# Altium schematic symbol library Smart_lockV1.1.SchLib: 49 symbols
Pins are listed as number, name and electrical type; pins without a type are passive.

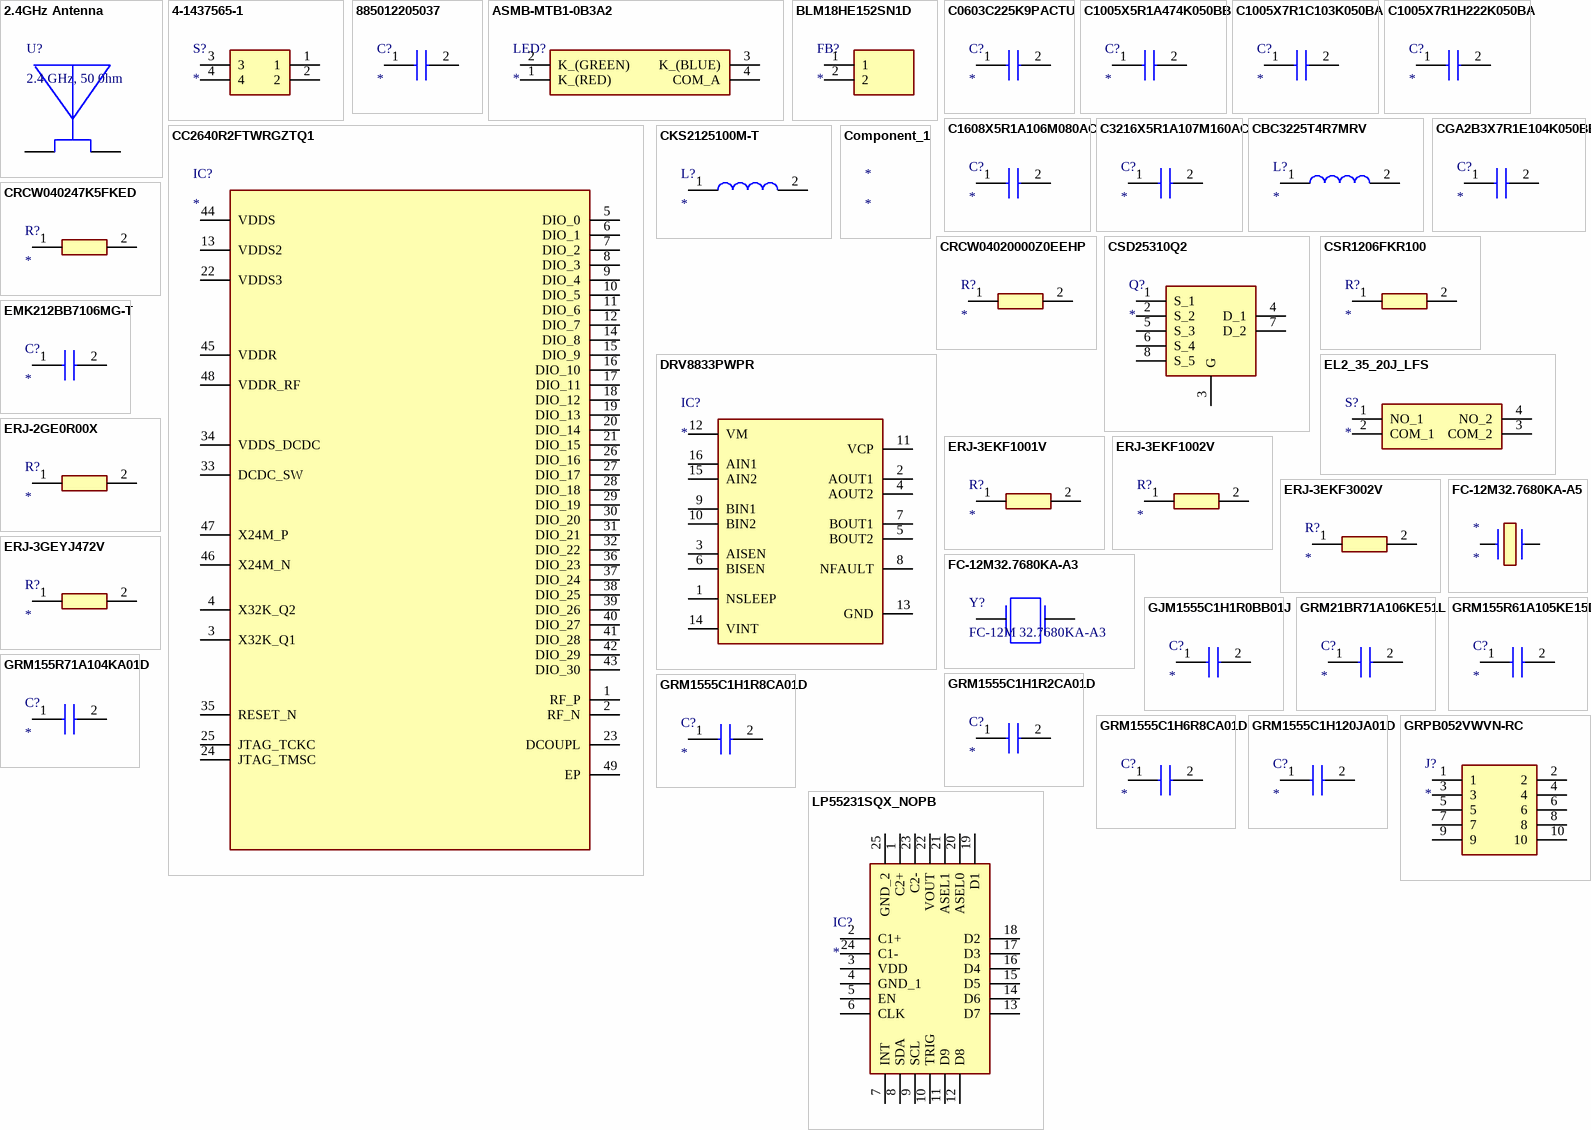
[diagram p0: symbols 2.4GHz Antenna to LP55231SQX_NOPB]

## 2.4GHz Antenna
designator U?, comment 2.4 GHz, 50 0hm
footprint ANT_IFA_USB_2_4GHZ_50R
pins: 1, 2 GND

## 4-1437565-1
designator S?
Switch; Manufacturer_Name: TE Connectivity; Manufacturer_Part_Number: 4-1437565-1; Mouser Part Number: N/A; Mouser Price/Stock: https://www.mouser.com/Search/Refine.aspx?Keyword=N%2FA; Arrow Part Number: 4-1437565-1; Arrow Price/Stock: https://www.arrow.com/en/products/4-1437565-1/te-connectivity?region=europe
footprint FSM-SWITCH
pins: 1, 2, 3, 4

## 885012205037
designator C?
Capacitor; Manufacturer_Name: Wurth Elektronik; Manufacturer_Part_Number: 885012205037; Datasheet Link: https://katalog.we-online.com/pbs/datasheet/885012205037.pdf; Height: 0.55mm; Mouser Part Number: 710-885012205037; Mouser Price/Stock: https://www.mouser.co.uk/ProductDetail/Wurth-Elektronik/885012205037?qs=0KOYDY2FL2%252B%2FS6qIxdvsOA%3D%3D
footprint CAPC1005X55N
pins: 1, 2

## ASMB-MTB1-0B3A2
designator LED?
LED; Manufacturer_Name: Avago Technologies; Manufacturer_Part_Number: ASMB-MTB1-0B3A2; Datasheet Link: https://docs.broadcom.com/doc/AV02-4194EN; Height: 2.1mm; Mouser Part Number: 630-ASMB-MTB1-0B3A2; Mouser Price/Stock: https://www.mouser.co.uk/ProductDetail/Broadcom-Avago/ASMB-MTB1-0B3A2?qs=pUKx8fyJudDzsc2Rt%2Fv8dg%3D%3D
footprint ASMBMTB10B3A2
pins: 1 K_(RED), 2 K_(GREEN), 3 K_(BLUE), 4 COM_A

## BLM18HE152SN1D
designator FB?
Ferrite Bead; Manufacturer_Name: Murata Electronics; Manufacturer_Part_Number: BLM18HE152SN1D; Datasheet Link: http://www.murata.com/~/media/webrenewal/support/library/catalog/products/emc/emifil/c31e.ashx?la=en-gb; Height: 0.95mm; Mouser Part Number: 81-BLM18HE152SN1D; Mouser Price/Stock: https://www.mouser.co.uk/ProductDetail/Murata-Electronics/BLM18HE152SN1D?qs=vNc2DXHODiLhczkT1FKS1Q%3D%3D; Arrow Part Number: BLM18HE152SN1D; Arrow Price/Stock: https://www.arrow.com/en/products/blm18he152sn1d/murata-manufacturing?utm_currency=USD&region=nac
footprint BLM18SP221SN1B
pins: 1, 2

## C0603C225K9PACTU
designator C?
Capacitor; Manufacturer_Name: KEMET; Manufacturer_Part_Number: C0603C225K9PACTU; Datasheet Link: https://content.kemet.com/datasheets/KEM_C1006_X5R_SMD.pdf; Height: 0.87mm; Mouser Part Number: 80-C0603C225K9P; Mouser Price/Stock: https://www.mouser.co.uk/ProductDetail/KEMET/C0603C225K9PACTU?qs=k9TrThuu1pdUHTgQc%252B%2FY%252Bg%3D%3D; Arrow Part Number: C0603C225K9PACTU; Arrow Price/Stock: https://www.arrow.com/en/products/c0603c225k9pactu/kemet-corporation?region=nac
footprint C0603
pins: 1, 2

## C1005X5R1A474K050BB
designator C?
Capacitor; Manufacturer_Name: TDK; Manufacturer_Part_Number: C1005X5R1A474K050BB; Datasheet Link: https://product.tdk.com/info/en/catalog/datasheets/mlcc_commercial_midvoltage_en.pdf; Height: 0.55mm; Mouser Part Number: 810-C1005X5R1A474K; Mouser Price/Stock: https://www.mouser.com/Search/Refine.aspx?Keyword=810-C1005X5R1A474K
footprint CAPC1005X55N
pins: 1, 2

## C1005X7R1C103K050BA
designator C?
Capacitor; Manufacturer_Name: TDK; Manufacturer_Part_Number: C1005X7R1C103K050BA; Datasheet Link: https://product.tdk.com/info/en/catalog/datasheets/mlcc_commercial_midvoltage_en.pdf; Height: 0.55mm; Mouser Part Number: 810-C1005X7R1C103K; Mouser Price/Stock: https://www.mouser.co.uk/ProductDetail/TDK/C1005X7R1C103K050BA?qs=NRhsANhppD%252Bt7xPr32kpQA%3D%3D; Arrow Part Number: C1005X7R1C103K050BA; Arrow Price/Stock: https://www.arrow.com/en/products/c1005x7r1c103k050ba/tdk?region=nac
footprint CAPC1005X55N
pins: 1, 2

## C1005X7R1H222K050BA
designator C?
Capacitor; Manufacturer_Name: TDK; Manufacturer_Part_Number: C1005X7R1H222K050BA; Datasheet Link: https://product.tdk.com/info/en/catalog/datasheets/mlcc_commercial_midvoltage_en.pdf; Height: 0.55mm; Mouser Part Number: 810-C1005X7R1H222K; Mouser Price/Stock: https://www.mouser.co.uk/ProductDetail/TDK/C1005X7R1H222K050BA?qs=NRhsANhppD9DKOaxmnLFog%3D%3D
footprint CAPC1005X55N
pins: 1, 2

## C1608X5R1A106M080AC
designator C?
Capacitor; Manufacturer_Name: TDK; Manufacturer_Part_Number: C1608X5R1A106M080AC; Datasheet Link: https://product.tdk.com/info/en/catalog/datasheets/mlcc_commercial_midvoltage_en.pdf; Height: 0.8mm; Mouser Part Number: 810-C1608X5R1A106M; Mouser Price/Stock: https://www.mouser.co.uk/ProductDetail/TDK/C1608X5R1A106M080AC?qs=NRhsANhppD%2FNXUUBltaPzw%3D%3D; Arrow Part Number: C1608X5R1A106M080AC; Arrow Price/Stock: https://www.arrow.com/en/products/c1608x5r1a106m080ac/tdk?region=nac
footprint CAPC1608X80N
pins: 1, 2

## C3216X5R1A107M160AC
designator C?
Capacitor; Manufacturer_Name: TDK; Manufacturer_Part_Number: C3216X5R1A107M160AC; Datasheet Link: https://product.tdk.com/info/en/catalog/datasheets/mlcc_commercial_midvoltage_en.pdf; Height: 1.8mm; Mouser Part Number: 810-C3216X5R1A107M; Mouser Price/Stock: https://www.mouser.co.uk/ProductDetail/TDK/C3216X5R1A107M160AC?qs=NRhsANhppD%252B0MpDu1pf9NA%3D%3D; Arrow Part Number: C3216X5R1A107M160AC; Arrow Price/Stock: https://www.arrow.com/en/products/c3216x5r1a107m160ac/tdk?region=nac
footprint CAPC3216X180N
pins: 1, 2

## CBC3225T4R7MRV
designator L?
Inductor; Manufacturer_Name: TAIYO YUDEN; Manufacturer_Part_Number: CBC3225T4R7MRV; Datasheet Link: https://www.arrow.com/en/products/cbc3225t4r7mrv/taiyo-yuden; Height: 2.7mm; Mouser Part Number: 963-CBC3225T4R7MRV; Mouser Price/Stock: https://www.mouser.co.uk/ProductDetail/TAIYO-YUDEN/CBC3225T4R7MRV?qs=DpxmIIQLg%252BP760DvOSan2w%3D%3D; Arrow Part Number: CBC3225T4R7MRV; Arrow Price/Stock: https://www.arrow.com/en/products/cbc3225t4r7mrv/taiyo-yuden
footprint INDC3225X270N
pins: 1, 2

## CC2640R2FTWRGZTQ1
designator IC?
Integrated Circuit; Manufacturer_Name: Texas Instruments; Manufacturer_Part_Number: CC2640R2FTWRGZTQ1; Datasheet Link: https://mouser.componentsearchengine.com/Datasheets/2/CC2640R2FTWRGZTQ1.pdf; Height: 1mm; Mouser Part Number: 595-2640R2FTWRGZTQ1; Mouser Price/Stock: https://www.mouser.co.uk/ProductDetail/Texas-Instruments/CC2640R2FTWRGZTQ1?qs=6BVwEky2YVwde1NefGxXhA%3D%3D; Arrow Part Number: CC2640R2FTWRGZTQ1; Arrow Price/Stock: https://www.arrow.com/en/products/cc2640r2ftwrgztq1/texas-instruments?region=nac
footprint QFN50P700X700X100-49N-D
pins: 1 RF_P, 2 RF_N, 3 X32K_Q1, 4 X32K_Q2, 5 DIO_0, 6 DIO_1, 7 DIO_2, 8 DIO_3, 9 DIO_4, 10 DIO_5, 11 DIO_6, 12 DIO_7, 13 VDDS2, 14 DIO_8, 15 DIO_9, 16 DIO_10, 17 DIO_11, 18 DIO_12, 19 DIO_13, 20 DIO_14, 21 DIO_15, 22 VDDS3, 23 DCOUPL, 24 JTAG_TMSC, 25 JTAG_TCKC, 26 DIO_16, 27 DIO_17, 28 DIO_18, 29 DIO_19, 30 DIO_20, 31 DIO_21, 32 DIO_22, 33 DCDC_SW, 34 VDDS_DCDC, 35 RESET_N, 36 DIO_23, 37 DIO_24, 38 DIO_25, 39 DIO_26, 40 DIO_27, 41 DIO_28, 42 DIO_29, 43 DIO_30, 44 VDDS, 45 VDDR, 46 X24M_N, 47 X24M_P, 48 VDDR_RF, 49 EP

## CGA2B3X7R1E104K050BB
designator C?
Capacitor; Manufacturer_Name: TDK; Manufacturer_Part_Number: CGA2B3X7R1E104K050BB; Datasheet Link: http://docs-europe.electrocomponents.com/webdocs/14e9/0900766b814e9125.pdf; Height: 0.55mm; Mouser Part Number: 810-CGA2B3X7R1E104K; Mouser Price/Stock: https://www.mouser.co.uk/ProductDetail/TDK/CGA2B3X7R1E104K050BB?qs=NRhsANhppD8vfw6RTbl%2FmA%3D%3D; Arrow Part Number: CGA2B3X7R1E104K050BB; Arrow Price/Stock: https://www.arrow.com/en/products/cga2b3x7r1e104k050bb/tdk
footprint CAPC1005X55N
pins: 1, 2

## CKS2125100M-T
designator L?
Inductor; Manufacturer_Name: TAIYO YUDEN; Manufacturer_Part_Number: CKS2125100M-T; Datasheet Link: http://www.farnell.com/datasheets/1913121.pdf; Height: 1.45mm; Mouser Part Number: 963-CKS2125100M-T; Mouser Price/Stock: https://www.mouser.co.uk/ProductDetail/TAIYO-YUDEN/CKS2125100M-T?qs=I6KAKw0tg2zHq294SAdJZA%3D%3D
footprint INDC2112X145N
pins: 1, 2

## Component_1
designator *

## CRCW040247K5FKED
designator R?
Resistor; Manufacturer_Name: Vishay; Manufacturer_Part_Number: CRCW040247K5FKED; Datasheet Link: http://www.vishay.com/docs/20035/dcrcwe3.pdf; Height: 0.4mm; Mouser Part Number: 71-CRCW0402-47.5K-E3; Mouser Price/Stock: https://www.mouser.co.uk/ProductDetail/Vishay-Dale/CRCW040247K5FKED?qs=rzhQWu8UUS33UUFZR3Sagw%3D%3D; Arrow Part Number: CRCW040247K5FKED; Arrow Price/Stock: https://www.arrow.com/en/products/crcw040247k5fked/vishay
footprint RESC1005X40N
pins: 1, 2

## CRCW04020000Z0EEHP
designator R?
Resistor; Manufacturer_Name: Vishay; Manufacturer_Part_Number: CRCW04020000Z0EEHP; Datasheet Link: http://www.vishay.com/docs/20035/dcrcwe3.pdf; Height: 0.4mm; Mouser Part Number: 71-CRCW04020000Z0EEH; Mouser Price/Stock: https://www.mouser.co.uk/ProductDetail/Vishay/CRCW04020000Z0EEHP?qs=Imq1NPwxi74NTc567q7flQ%3D%3D; Arrow Part Number: CRCW04020000Z0EEHP; Arrow Price/Stock: https://www.arrow.com/en/products/crcw04020000z0eehp/vishay?utm_currency=USD&region=nac
footprint RESC1005X40N
pins: 1, 2

## CSD25310Q2
designator Q?
MOSFET (P-Channel); Manufacturer_Name: Texas Instruments; Manufacturer_Part_Number: CSD25310Q2; Datasheet Link: http://www.ti.com/lit/gpn/csd25310q2; Mouser Part Number: 595-CSD25310Q2; Mouser Price/Stock: https://www.mouser.co.uk/ProductDetail/Texas-Instruments/CSD25310Q2?qs=%252BFzhjShcsaLmTjZr5cnj9w%3D%3D; Arrow Part Number: CSD25310Q2; Arrow Price/Stock: https://www.arrow.com/en/products/csd25310q2/texas-instruments?region=nac
footprint CSD17313Q2
pins: 1 S_1, 2 S_2, 3 G, 4 D_1, 5 S_3, 6 S_4, 7 D_2, 8 S_5

## CSR1206FKR100
designator R?
Resistor; Manufacturer_Name: Stackpole Electronics; Manufacturer_Part_Number: CSR1206FKR100; Datasheet Link: https://cs.seielect.com/catalog/SEI-CSR_CSRN.pdf; Height: 0.65mm; Mouser Part Number: 708-CSR1206FKR100; Mouser Price/Stock: https://www.mouser.co.uk/ProductDetail/SEI-Stackpole/CSR1206FKR100?qs=FESYatJ8odJJ%2Fwfc%252BjDDcQ%3D%3D
footprint CSR1206
pins: 1, 2

## DRV8833PWPR
designator IC?
Integrated Circuit; Manufacturer_Name: Texas Instruments; Manufacturer_Part_Number: DRV8833PWPR; Datasheet Link: http://www.ti.com/lit/gpn/drv8833; Height: 1.2mm; Mouser Part Number: 595-DRV8833PWPR; Mouser Price/Stock: https://www.mouser.co.uk/ProductDetail/Texas-Instruments/DRV8833PWPR?qs=luhu8ESwuKxT62RV9jrJTg%3D%3D; Arrow Part Number: DRV8833PWPR; Arrow Price/Stock: https://www.arrow.com/en/products/drv8833pwpr/texas-instruments?utm_currency=USD&region=europe
footprint SOP65P640X120-16N
pins: 1 NSLEEP, 2 AOUT1, 3 AISEN, 4 AOUT2, 5 BOUT2, 6 BISEN, 7 BOUT1, 8 NFAULT, 9 BIN1, 10 BIN2, 11 VCP, 12 VM, 13 GND, 14 VINT, 15 AIN2, 16 AIN1

## EL2_35_20J_LFS
designator S?
Switch; Manufacturer_Name: LITTELFUSE; Manufacturer_Part_Number: EL2 35 20J LFS; Datasheet Link: https://www.ckswitches.com/media/3758/el2.pdf; Height: 3.7mm
footprint EL23520JLFS
pins: 1 NO_1, 2 COM_1, 3 COM_2, 4 NO_2

## EMK212BB7106MG-T
designator C?
Capacitor; Manufacturer_Name: TAIYO YUDEN; Manufacturer_Part_Number: EMK212BB7106MG-T; Datasheet Link: https://datasheet.datasheetarchive.com/originals/distributors/Datasheets-DGA20/25674.pdf; Height: 1.45mm; Mouser Part Number: 963-EMK212BB7106MG-T; Mouser Price/Stock: https://www.mouser.co.uk/ProductDetail/TAIYO-YUDEN/EMK212BB7106MG-T?qs=CNQs48zzdnoVUZzBq71rnA%3D%3D
footprint CAPC2114X145N
pins: 1, 2

## ERJ-2GE0R00X
designator R?
Resistor; Manufacturer_Name: Panasonic; Manufacturer_Part_Number: ERJ-2GE0R00X; Datasheet Link: http://industrial.panasonic.com/www-cgi/jvcr13pz.cgi?E+PZ+3+AOA0001+ERJ2GE0R00X+7+WW; Height: 0.4mm; Mouser Part Number: 667-ERJ-2GE0R00X; Mouser Price/Stock: https://www.mouser.co.uk/ProductDetail/Panasonic/ERJ-2GE0R00X?qs=Cz%252B5TvT4yly5%252BP7oLZcLxw%3D%3D; Arrow Part Number: ERJ-2GE0R00X; Arrow Price/Stock: https://www.arrow.com/en/products/erj2ge0r00x/panasonic?region=nac
footprint RESC1005X40N
pins: 1, 2

## ERJ-3EKF1001V
designator R?
Resistor; Manufacturer_Name: Panasonic; Manufacturer_Part_Number: ERJ-3EKF1001V; Datasheet Link: http://industrial.panasonic.com/cdbs/www-data/pdf/RDA0000/AOA0000C86.pdf; Height: 0.55mm; Mouser Part Number: 667-ERJ-3EKF1001V; Mouser Price/Stock: https://www.mouser.co.uk/ProductDetail/Panasonic/ERJ-3EKF1001V?qs=H7k1u0Mp9JTM8yQxOuvoDg%3D%3D; Arrow Part Number: ERJ-3EKF1001V; Arrow Price/Stock: https://www.arrow.com/en/products/erj-3ekf1001v/panasonic?region=nac
footprint RESC1608X55N
pins: 1, 2

## ERJ-3EKF1002V
designator R?
Resistor; Manufacturer_Name: Panasonic; Manufacturer_Part_Number: ERJ-3EKF1002V; Datasheet Link: http://industrial.panasonic.com/cdbs/www-data/pdf/RDA0000/AOA0000C86.pdf; Height: 0.55mm; Mouser Part Number: 667-ERJ-3EKF1002V; Mouser Price/Stock: https://www.mouser.co.uk/ProductDetail/Panasonic/ERJ-3EKF1002V?qs=H7k1u0Mp9JSrGPQ5%2F5COuw%3D%3D; Arrow Part Number: ERJ-3EKF1002V; Arrow Price/Stock: https://www.arrow.com/en/products/erj-3ekf1002v/panasonic?region=europe
footprint RESC1608X55N
pins: 1, 2

## ERJ-3EKF3002V
designator R?
Resistor; Manufacturer_Name: Panasonic; Manufacturer_Part_Number: ERJ-3EKF3002V; Datasheet Link: http://industrial.panasonic.com/cdbs/www-data/pdf/RDA0000/AOA0000C86.pdf; Height: 0.55mm; Mouser Part Number: 667-ERJ-3EKF3002V; Mouser Price/Stock: https://www.mouser.co.uk/ProductDetail/Panasonic/ERJ-3EKF3002V?qs=MVjVSMjNRMoByeEjjMcfzA%3D%3D; Arrow Part Number: ERJ-3EKF3002V; Arrow Price/Stock: https://www.arrow.com/en/products/erj3ekf3002v/panasonic?region=nac
footprint RESC1608X55N
pins: 1, 2

## ERJ-3GEYJ472V
designator R?
Resistor; Manufacturer_Name: Panasonic; Manufacturer_Part_Number: ERJ-3GEYJ472V; Datasheet Link: http://docs-europe.electrocomponents.com/webdocs/13ba/0900766b813ba21b.pdf; Height: 0.55mm; Mouser Part Number: 667-ERJ-3GEYJ472V; Mouser Price/Stock: https://www.mouser.co.uk/ProductDetail/Panasonic/ERJ-3GEYJ472V?qs=5Z1f76oN9PODrqkF4KFDng%3D%3D; Arrow Part Number: ERJ-3GEYJ472V; Arrow Price/Stock: https://www.arrow.com/en/products/erj-3geyj472v/panasonic?region=europe
footprint ERJ3EKF1000V
pins: 1, 2

## FC-12M32.7680KA-A3
designator Y?, comment FC-12M 32.7680KA-A3
Parallel - Fundamental Quartz Crystal, 0.032768MHz Nom; Manufacturer: Epson; Supplier: Mouser; Supplier Part Number: 732-FC-12M-32.76KAA3; Manufacturer Part Number: FC-12M32.7680KA-A3; RoHS: Yes; Category: Crystals; Stock: 66802; Pricing: 1=0.82, 10=0.796, 50=0.796, 100=0.701, 1000=0.7, 10000=0.691 (USD); Terminal Finish: Gold; Min Operating Temperature: -40°C; Max Operating Temperature: 85°C; JESD-609 Code: e4; Crystal/Resonator Type: PARALLEL - FUNDAMENTAL; Operating Frequency-Nom: 0.032768; Reach SVHC Compliant: Yes; RoHS Compliant: Yes; ComponentLink1URL: https://datasheet.ciiva.com:443/pdfs/VipMasterIC/IC/SEIK/SEIK-S-A0003554755/SEIK-S-A0003554755-1.pdf?src-supplier=IHS+Markit; ComponentLink1Description: https://datasheet.ciiva.com:443/pdfs/VipMasterIC/IC/SEIK/SEIK-S-A0003554755/SEIK-S-A0003554755-1.pdf?src-supplier=IHS+Markit; ComponentLink2URL: http://www.mouser.com/ds/2/137/C-12M_en-932929.pdf?src-supplier=Mouser; ComponentLink2Description: http://www.mouser.com/ds/2/137/C-12M_en-932929.pdf?src-supplier=Mouser; ComponentLink3URL: https://www5.epsondevice.com/en/information/support/pdf/june_2018_psc_masterbook.pdf?src-supplier=Digikey; ComponentLink3Description: https://www5.epsondevice.com/en/information/support/pdf/june_2018_psc_masterbook.pdf?src-supplier=Digikey; ComponentLink4URL: https://support.epson.biz/td/api/doc_check.php?dl=brief_FC-12D&lang=en&src-supplier=Digikey; ComponentLink4Description: https://support.epson.biz/td/api/doc_check.php?dl=brief_FC-12D&lang=en&src-supplier=Digikey; ComponentLink5URL: http://datasheet.octopart.com/FC-12M-32.7680KA-A3-Epson-datasheet-62043849.pdf?src-supplier=Verical; ComponentLink5Description: http://datasheet.octopart.com/FC-12M-32.7680KA-A3-Epson-datasheet-62043849.pdf?src-supplier=Verical; ComponentLink6URL: http://datasheet.octopart.com/FC-12M-32.7680KA-A3-Epson-datasheet-62043849.pdf?src-supplier=Future+Electronics; ComponentLink6Description: http://datasheet.octopart.com/FC-12M-32.7680KA-A3-Epson-datasheet-62043849.pdf?src-supplier=Future+Electronics; ComponentLink7URL: http://datasheet.octopart.com/FC-12M-32.7680KA-A3-Epson-datasheet-62043849.pdf?src-supplier=NAC+Semi; ComponentLink7Description: http://datasheet.octopart.com/FC-12M-32.7680KA-A3-Epson-datasheet-62043849.pdf?src-supplier=NAC+Semi
footprint FC-12M 32.7680KA-A3
pins: 1, 2

## FC-12M32.7680KA-A5
designator *
Parallel - Fundamental Quartz Crystal, 0.032768MHz Nom; Manufacturer: Epson; Manufacturer Part Number: FC-12M32.7680KA-A5; Supplier: Mouser; Supplier Part Number: 732-FC-12M32.768KAA5; RoHS: Yes; Category: Crystals; Stock: 52995; Pricing: 1=0.65, 10=0.506, 50=0.506, 100=0.455, 1000=0.39, 10000=0.366 (USD); Terminal Finish: Gold; Min Operating Temperature: -40°C; Max Operating Temperature: 85°C; JESD-609 Code: e4; Crystal/Resonator Type: PARALLEL - FUNDAMENTAL; Operating Frequency-Nom: 0.032768; Reach SVHC Compliant: Yes; RoHS Compliant: Yes; ComponentLink1URL: https://datasheet.ciiva.com:443/pdfs/VipMasterIC/IC/SEIK/SEIK-S-A0008395574/SEIK-S-A0008395574-1.pdf?src-supplier=IHS+Markit; ComponentLink1Description: https://datasheet.ciiva.com:443/pdfs/VipMasterIC/IC/SEIK/SEIK-S-A0008395574/SEIK-S-A0008395574-1.pdf?src-supplier=IHS+Markit; ComponentLink2URL: https://datasheet.ciiva.com/12388/1407447-3083-12388132.pdf?src-supplier=Mouser; ComponentLink2Description: https://datasheet.ciiva.com/12388/1407447-3083-12388132.pdf?src-supplier=Mouser
footprint FC12M327680KAA5
pins: 1, 2

## GJM1555C1H1R0BB01J
designator C?
Capacitor; Manufacturer_Name: Murata Electronics; Manufacturer_Part_Number: GJM1555C1H1R0BB01J; Datasheet Link: https://psearch.en.murata.com/capacitor/product/GJM1555C1H1R0BB01%23.html; Height: 0.55mm; Mouser Part Number: 81-GJM1555C1H1R0BB1J; Mouser Price/Stock: https://www.mouser.co.uk/ProductDetail/Murata-Electronics/GJM1555C1H1R0BB01J?qs=QDXoN8f0aYKhYDjDsFjbQw%3D%3D; Arrow Part Number: GJM1555C1H1R0BB01J; Arrow Price/Stock: https://www.arrow.com/en/products/gjm1555c1h1r0bb01j/murata-manufacturing
footprint CAPC1005X55N
pins: 1, 2

## GRM21BR71A106KE51L
designator C?
Capacitor; Manufacturer_Name: Murata Electronics; Manufacturer_Part_Number: GRM21BR71A106KE51L; Datasheet Link: http://www.murata.com/~/media/webrenewal/support/library/catalog/products/capacitor/mlcc/c02e.pdf; Height: 1.45mm; Mouser Part Number: 81-GRM21BR71A106KE51; Mouser Price/Stock: https://www.mouser.co.uk/ProductDetail/Murata-Electronics/GRM21BR71A106KE51L?qs=kHCDrmfBqSAdNFLacabF8w%3D%3D; Arrow Part Number: GRM21BR71A106KE51L; Arrow Price/Stock: https://www.arrow.com/en/products/grm21br71a106ke51l/murata-manufacturing
footprint CAPC2012X145N
pins: 1, 2

## GRM155R61A105KE15D
designator C?
Capacitor; Manufacturer_Name: Murata Electronics; Manufacturer_Part_Number: GRM155R61A105KE15D; Datasheet Link: http://www.murata.com/~/media/webrenewal/support/library/catalog/products/capacitor/mlcc/c02e.pdf; Height: 0.55mm; Mouser Part Number: 81-GRM155R61A105KE15; Mouser Price/Stock: https://www.mouser.co.uk/ProductDetail/Murata-Electronics/GRM155R61A105KE15D?qs=mjAxHPhY7UcmPekRqw%2FAPA%3D%3D; Arrow Part Number: GRM155R61A105KE15D; Arrow Price/Stock: https://www.arrow.com/en/products/grm155r61a105ke15d/murata-manufacturing?region=europe
footprint CAPC1005X55N
pins: 1, 2

## GRM155R71A104KA01D
designator C?
Capacitor; Manufacturer_Name: Murata Electronics; Manufacturer_Part_Number: GRM155R71A104KA01D; Datasheet Link: http://www.murata.com/~/media/webrenewal/support/library/catalog/products/capacitor/mlcc/c02e.pdf; Height: 0.55mm; Mouser Part Number: 81-GRM155R71A104KA1D; Mouser Price/Stock: https://www.mouser.co.uk/ProductDetail/Murata-Electronics/GRM155R71A104KA01D?qs=8YPuuxuUzMIpJ%252BESZ%2Fj8CQ%3D%3D; Arrow Part Number: GRM155R71A104KA01D; Arrow Price/Stock: https://www.arrow.com/en/products/grm155r71a104ka01d/murata-manufacturing?region=nac
footprint CAPC1005X55N
pins: 1, 2

## GRM1555C1H1R2CA01D
designator C?
Capacitor; Manufacturer_Name: Murata Electronics; Manufacturer_Part_Number: GRM1555C1H1R2CA01D; Datasheet Link: http://www.murata.com/~/media/webrenewal/support/library/catalog/products/capacitor/mlcc/c02e.pdf; Height: 0.55mm; Mouser Part Number: 81-GRM1555C1H1R2CA1D; Mouser Price/Stock: https://www.mouser.com/Search/ProductDetail.aspx?qs=to8XolpOzrP6nx%252b3wqoCBw%3d%3d
footprint CAPC1005X55N
pins: 1, 2

## GRM1555C1H1R8CA01D
designator C?
Capacitor; Manufacturer_Name: Murata Electronics; Manufacturer_Part_Number: GRM1555C1H1R8CA01D; Datasheet Link: http://www.murata.com/~/media/webrenewal/support/library/catalog/products/capacitor/mlcc/c02e.pdf; Height: 0.55mm; Mouser Part Number: 81-GRM1555C1H1R8CA1D; Mouser Price/Stock: https://www.mouser.co.uk/ProductDetail/Murata-Electronics/GRM1555C1H1R8CA01D?qs=4k9rjS6ZRl5xsfkvNAudjg%3D%3D; Arrow Part Number: GRM1555C1H1R8CA01D; Arrow Price/Stock: https://www.arrow.com/en/products/grm1555c1h1r8ca01d/murata-manufacturing?region=nac
footprint CAPC1005X55N
pins: 1, 2

## GRM1555C1H6R8CA01D
designator C?
Capacitor; Manufacturer_Name: Murata Electronics; Manufacturer_Part_Number: GRM1555C1H6R8CA01D; Datasheet Link: http://www.murata.com/~/media/webrenewal/support/library/catalog/products/capacitor/mlcc/c02e.pdf; Height: 0.55mm; Mouser Part Number: 81-GRM1555C1H6R8CA1D; Mouser Price/Stock: https://www.mouser.co.uk/ProductDetail/Murata-Electronics/GRM1555C1H6R8CA01D?qs=q312vENifzChk4Wux6WqXA%3D%3D; Arrow Part Number: GRM1555C1H6R8CA01D; Arrow Price/Stock: https://www.arrow.com/en/products/grm1555c1h6r8ca01d/murata-manufacturing
footprint CAPC1005X55N
pins: 1, 2

## GRM1555C1H120JA01D
designator C?
Capacitor; Manufacturer_Name: Murata Electronics; Manufacturer_Part_Number: GRM1555C1H120JA01D; Datasheet Link: http://www.murata.com/~/media/webrenewal/support/library/catalog/products/capacitor/mlcc/c02e.pdf; Height: 0.55mm; Mouser Part Number: 81-GRM1555C1H120JA1D; Mouser Price/Stock: https://www.mouser.co.uk/ProductDetail/Murata-Electronics/GRM1555C1H120JA01D?qs=to8XolpOzrOCHudLswyzbw%3D%3D; Arrow Part Number: GRM1555C1H120JA01D; Arrow Price/Stock: https://www.arrow.com/en/products/grm1555c1h120ja01d/murata-manufacturing?region=nac
footprint CAPC1005X55N
pins: 1, 2

## GRPB052VWVN-RC
designator J?
Connector; Manufacturer_Name: Sullins; Manufacturer_Part_Number: GRPB052VWVN-RC; Datasheet Link: https://media.digikey.com/pdf/Data%20Sheets/Sullins%20PDFs/GRPB_%20_2VWVN-RC%2010954-C.pdf; Height: 4.3mm
footprint HDRV10W50P127_2X5_635X340X430P
pins: 1, 2, 3, 4, 5, 6, 7, 8, 9, 10

## LP55231SQX_NOPB
designator IC?
Integrated Circuit; Manufacturer_Name: Texas Instruments; Manufacturer_Part_Number: LP55231SQX/NOPB; Datasheet Link: http://www.ti.com/lit/gpn/lp55231; Height: 0.8mm; Mouser Part Number: 595-LP55231SQX/NOPB; Mouser Price/Stock: https://www.mouser.co.uk/ProductDetail/Texas-Instruments/LP55231SQX-NOPB?qs=HF2YfZwisE8IcIRPR19gTw%3D%3D; Arrow Part Number: LP55231SQX/NOPB; Arrow Price/Stock: https://www.arrow.com/en/products/lp55231sqxnopb/texas-instruments?region=nac
footprint QFN50P400X400X80-25N
pins: 1 C2+, 2 C1+, 3 VDD, 4 GND_1, 5 EN, 6 CLK, 7 INT, 8 SDA, 9 SCL, 10 TRIG, 11 D9, 12 D8, 13 D7, 14 D6, 15 D5, 16 D4, 17 D3, 18 D2, 19 D1, 20 ASEL0, 21 ASEL1, 22 VOUT, 23 C2-, 24 C1-, 25 GND_2

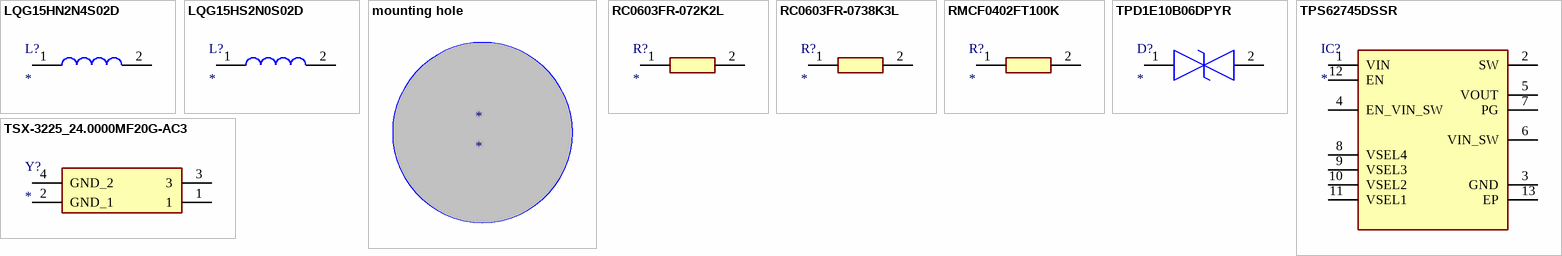
[diagram p1: symbols LQG15HN2N4S02D to TSX-3225_24.0000MF20G-AC3]

## LQG15HN2N4S02D
designator L?
Inductor; Manufacturer_Name: Murata Electronics; Manufacturer_Part_Number: LQG15HN2N4S02D; Datasheet Link: https://psearch.en.murata.com/inductor/product/LQG15HN2N4S02%23.html; Height: 0.55mm; Mouser Part Number: 81-LQG15HN2N4S02D; Mouser Price/Stock: https://www.mouser.com/Search/Refine.aspx?Keyword=81-LQG15HN2N4S02D; Arrow Part Number: LQG15HN2N4S02D; Arrow Price/Stock: https://www.arrow.com/en/products/lqg15hn2n4s02d/murata-manufacturing
footprint LQG15WH0N7B02D
pins: 1, 2

## LQG15HS2N0S02D
designator L?
Inductor; Manufacturer_Name: Murata Electronics; Manufacturer_Part_Number: LQG15HS2N0S02D; Datasheet Link: https://psearch.en.murata.com/inductor/product/LQG15HS2N0S02%23.html; Height: 0.55mm; Mouser Part Number: 81-LQG15HS2N0S02D; Mouser Price/Stock: https://www.mouser.co.uk/ProductDetail/Murata-Electronics/LQG15HS2N0S02D?qs=z7wylDbq%2FU6uWxpTRPm4gA%3D%3D; Arrow Part Number: LQG15HS2N0S02D; Arrow Price/Stock: https://www.arrow.com/en/products/lqg15hs2n0s02d/murata-manufacturing?region=nac
footprint LQG15WH0N7B02D
pins: 1, 2

## mounting hole
designator *
footprint mounting hole

## RC0603FR-072K2L
designator R?
Resistor; Manufacturer_Name: KEMET; Manufacturer_Part_Number: RC0603FR-072K2L; Datasheet Link: http://www.yageo.com/documents/recent/PYu-RC0603_51_RoHS_L_v5.pdf; Height: 0.55mm; Mouser Part Number: 603-RC0603FR-072K2L; Mouser Price/Stock: https://www.mouser.co.uk/ProductDetail/YAGEO/RC0603FR-072K2L?qs=diQw95jMAeOQmNpe2MM%252BPw%3D%3D; Arrow Part Number: RC0603FR-072K2L; Arrow Price/Stock: https://www.arrow.com/en/products/rc0603fr-072k2l/yageo?region=nac
footprint RESC1608X55N
pins: 1, 2

## RC0603FR-0738K3L
designator R?
Resistor; Manufacturer_Name: KEMET; Manufacturer_Part_Number: RC0603FR-0738K3L; Datasheet Link: http://www.yageo.com/documents/recent/PYu-RC0603_51_RoHS_L_v5.pdf; Height: 0.55mm
footprint RESC1608X55N
pins: 1, 2

## RMCF0402FT100K
designator R?
Resistor; Manufacturer_Name: Stackpole Electronics; Manufacturer_Part_Number: RMCF0402FT100K; Datasheet Link: https://cs.seielect.com/catalog/SEI-RMCF_RMCP.pdf; Height: 0.35mm; Mouser Part Number: 708-RMCF0402FT100K; Mouser Price/Stock: https://www.mouser.co.uk/ProductDetail/SEI-Stackpole/RMCF0402FT100K?qs=FESYatJ8odIlocPFcyIG5Q%3D%3D; Arrow Part Number: RMCF0402FT100K; Arrow Price/Stock: https://www.arrow.com/en/products/rmcf0402ft100k/stackpole-electronics?region=asia
footprint RESC1005X35N
pins: 1, 2

## TPD1E10B06DPYR
designator D?
TVS Diode (Bi-directional); Manufacturer_Name: Texas Instruments; Manufacturer_Part_Number: TPD1E10B06DPYR; Datasheet Link: https://www.ti.com/lit/ds/symlink/tpd1e10b06.pdf?HQS=TI-null-null-mousermode-df-pf-null-wwe&ts=1599077798252&ref_url=https%253A%252F%252Fwww.mouser.com%252F; Height: 0.45mm; Mouser Part Number: 595-TPD1E10B06DPYR; Mouser Price/Stock: https://www.mouser.co.uk/ProductDetail/Texas-Instruments/TPD1E10B06DPYR?qs=UFc95S4Z4CaJYpQ4xqTc0g%3D%3D; Arrow Part Number: TPD1E10B06DPYR; Arrow Price/Stock: https://www.arrow.com/en/products/tpd1e10b06dpyr/texas-instruments?region=nac
footprint TPD1E10B06DPYR
pins: 1, 2

## TPS62745DSSR
designator IC?
Integrated Circuit; Manufacturer_Name: Texas Instruments; Manufacturer_Part_Number: TPS62745DSSR; Datasheet Link: http://www.ti.com/lit/gpn/tps62745; Height: 0.8mm; Mouser Part Number: 595-TPS62745DSSR; Mouser Price/Stock: https://www.mouser.co.uk/ProductDetail/Texas-Instruments/TPS62745DSSR?qs=cGEy3R83DS9Bx52nwzd43Q%3D%3D; Arrow Part Number: TPS62745DSSR; Arrow Price/Stock: https://www.arrow.com/en/products/tps62745dssr/texas-instruments?region=nac
footprint SON50P200X300X80-13N
pins: 1 VIN, 2 SW, 3 GND, 4 EN_VIN_SW, 5 VOUT, 6 VIN_SW, 7 PG, 8 VSEL4, 9 VSEL3, 10 VSEL2, 11 VSEL1, 12 EN, 13 EP

## TSX-3225_24.0000MF20G-AC3
designator Y?
Crystal or Oscillator; Manufacturer_Name: Epson Timing; Manufacturer_Part_Number: TSX-3225 24.0000MF20G-AC3; Datasheet Link: https://support.epson.biz/td/api/doc_check.php?dl=brief_FA-238V_en.pdf; Mouser Part Number: 732-TX325-24F20G-AC3; Mouser Price/Stock: https://www.mouser.co.uk/ProductDetail/Epson-Timing/TSX-3225-24.0000MF20G-AC3?qs=tC2qD9afNgou1YHpctmuPA%3D%3D; Arrow Part Number: TSX-3225 24.0000MF20G-AC3; Arrow Price/Stock: https://www.arrow.com/en/products/tsx-322524.0000mf20g-ac3/epson-electronics-america?region=nac
footprint TSX-3225
pins: 1, 2 GND_1, 3, 4 GND_2